# Altium schematic symbol library LT8302.SchLib: 1 symbol
Pins are listed as number, name and electrical type; pins without a type are passive.

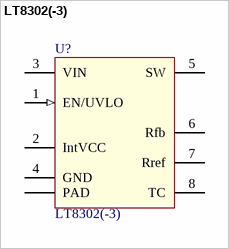
[diagram p0: symbol LT8302(-3)]

## LT8302(-3)
designator U?
42VIN Micropower No-Opto / Isolated Flyback Converter / with 65V/3.6A Switch; Value: LT8302(-3)
footprint SO-8-PAD (SOIC, 8-Leads, Body 4,90x3,90mm, Pitch 1,27mm, Thermal Pad 3,10x2,40mm, IPC Medium Density)
pins: 1 EN/UVLO (in) "Enable/Undervoltage Lockout.", 2 IntVCC ": Internal 3V Linear Regulator Output", 3 VIN (power) "Input Supply", 4 GND (power), 5 SW "Drain of the Internal DMOS Power Switch", 6 Rfb "Input Pin for External Feedback Resistor", 7 Rref "Input Pin for External Ground Referred", 8 TC "Output Voltage Temperature Compensation", PAD (power)